# EAGLE library part PP140-80CBS3.50X8.00 (library NewSDR)
Leader Tech 3.50"x8.00"x0.40" Shield
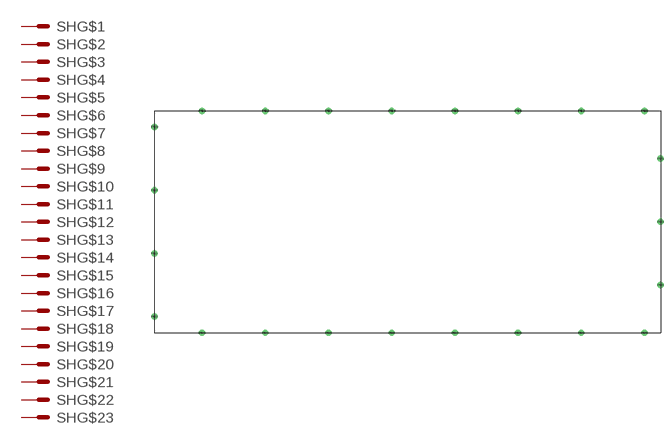
[diagram p100: symbol with the pads of PP140-80CBS3.50X8.00; footprint PP140-80CBS3.50X8.00]

Designator prefix SH; gates G$1=MS G$2=MS G$3=MS G$4=MS G$5=MS G$6=MS G$7=MS G$8=MS G$9=MS G$10=MS G$11=MS G$12=MS G$13=MS G$14=MS G$15=MS G$16=MS G$17=MS G$18=MS G$19=MS G$20=MS G$21=MS G$22=MS G$23=MS

## PP140-80CBS3.50X8.00  [PP140-80CBS3.50X8.00]
P$1  G$1:MS  pas
P$2  G$2:MS  pas
P$3  G$3:MS  pas
P$4  G$4:MS  pas
P$5  G$5:MS  pas
P$6  G$6:MS  pas
P$7  G$7:MS  pas
P$8  G$8:MS  pas
P$9  G$9:MS  pas
P$10  G$10:MS  pas
P$11  G$11:MS  pas
P$12  G$12:MS  pas
P$13  G$13:MS  pas
P$14  G$14:MS  pas
P$15  G$15:MS  pas
P$16  G$16:MS  pas
P$17  G$17:MS  pas
P$18  G$18:MS  pas
P$19  G$19:MS  pas
P$20  G$20:MS  pas
P$21  G$21:MS  pas
P$22  G$22:MS  pas
P$23  G$23:MS  pas

## Footprint PP140-80CBS3.50X8.00 (pad centres in mm)
Leader Tech 3.50"x8.00"x0.4" Shield
drill 1.27 pad 2.54: P$1 19.202,0; P$2 44.602,0; P$3 70.002,0; P$4 95.402,0; P$5 120.802,0; P$6 146.202,0; P$7 171.602,0; P$8 197.002,0; P$9 0,-6.502; P$10 0,-31.902; P$11 0,-57.302; P$12 0,-82.702; P$13 19.202,-89.205; P$14 44.602,-89.205; P$15 70.002,-89.205; P$16 95.402,-89.205; P$17 120.802,-89.205; P$18 146.202,-89.205; P$19 171.602,-89.205; P$20 197.002,-89.205; P$21 203.505,-19.202; P$22 203.505,-44.602; P$23 203.505,-70.002